# Altium footprint library EHK2V.PcbLib: 23 footprints (part 2 of 2)
Each footprint in its own frame and in the unit in brackets; x right, y up, seen from the top. Pads: shape width x height; smd on the part's side, far side on the other; paste and mask are expansions set on the pad; w line width, h text height; cw(c..) or ccw(c..) is an arc to the next point about the centre after c.
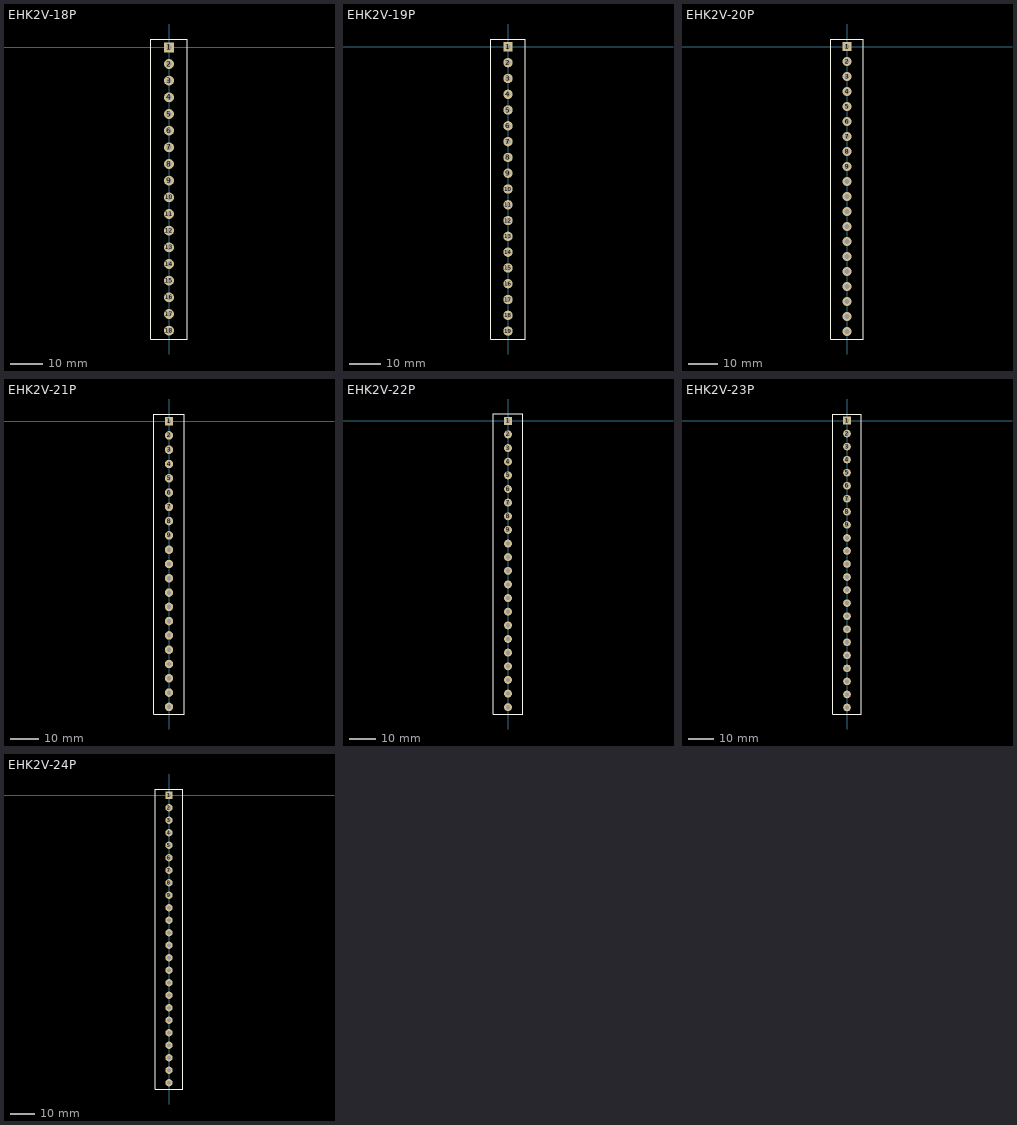
[diagram p1: the footprints below, top view; thin cyan lines are the x and y axes]

## EHK2V-18P [mm] "PCB Terminal Blocks"
pads (18):
  rect 3x3 hole 1.6: 1(0,0)
  round 3 hole 1.6: 2(0,-5.08) 3(0,-10.16) 4(0,-15.24) 5(0,-20.32) 6(0,-25.4) 7(0,-30.48) 8(0,-35.56) 12(0,-55.88) 14(0,-66.04) 16(0,-76.2) 18(0,-86.36)
  round 3 hole 1.6 paste+0: 9(0,-40.64) 10(0,-45.72) 11(0,-50.8) 13(0,-60.96) 15(0,-71.12) 17(0,-81.28)
Top Overlay:
  lines w0.2: -5.5,-88.9 5.5,-88.9 5.5,2.54 -5.5,2.54 -5.5,-88.9
3D body: height 18, standoff 0, extent -5.6,-88.9 5.6,2.54

## EHK2V-19P [mm] "PCB Terminal Blocks"
pads (19):
  rect 3x3 hole 1.6: 1(0,0)
  round 3 hole 1.6: 2(0,-5.08) 3(0,-10.16) 4(0,-15.24) 5(0,-20.32) 6(0,-25.4) 7(0,-30.48) 8(0,-35.56) 12(0,-55.88) 14(0,-66.04) 16(0,-76.2) 18(0,-86.36)
  round 3 hole 1.6 paste+0: 9(0,-40.64) 10(0,-45.72) 11(0,-50.8) 13(0,-60.96) 15(0,-71.12) 17(0,-81.28) 19(0,-91.44)
Top Overlay:
  lines w0.2: -5.5,-93.98 5.5,-93.98 5.5,2.54 -5.5,2.54 -5.5,-93.98
3D body: height 18, standoff 0, extent -5.6,-93.98 5.6,2.54

## EHK2V-20P [mm] "PCB Terminal Blocks"
pads (20):
  rect 3x3 hole 1.6: 1(0,0)
  round 3 hole 1.6: 2(0,-5.08) 3(0,-10.16) 4(0,-15.24) 5(0,-20.32) 6(0,-25.4) 7(0,-30.48) 8(0,-35.56) 12(0,-55.88) 14(0,-66.04) 16(0,-76.2) 18(0,-86.36)
  round 3 hole 1.6 paste+0: 9(0,-40.64) 10(0,-45.72) 11(0,-50.8) 13(0,-60.96) 15(0,-71.12) 17(0,-81.28) 19(0,-91.44) 20(0,-96.52)
Top Overlay:
  lines w0.2: -5.5,-99.06 5.5,-99.06 5.5,2.54 -5.5,2.54 -5.5,-99.06
3D body: height 18, standoff 0, extent -5.6,-99.06 5.6,2.54

## EHK2V-21P [mm] "PCB Terminal Blocks"
pads (21):
  rect 3x3 hole 1.6: 1(0,0)
  round 3 hole 1.6: 2(0,-5.08) 3(0,-10.16) 4(0,-15.24) 5(0,-20.32) 6(0,-25.4) 7(0,-30.48) 8(0,-35.56) 12(0,-55.88) 14(0,-66.04) 16(0,-76.2) 18(0,-86.36)
  round 3 hole 1.6 paste+0: 9(0,-40.64) 10(0,-45.72) 11(0,-50.8) 13(0,-60.96) 15(0,-71.12) 17(0,-81.28) 19(0,-91.44) 20(0,-96.52) 21(0,-101.6)
Top Overlay:
  lines w0.2: -5.5,-104.14 5.5,-104.14 5.5,2.54 -5.5,2.54 -5.5,-104.14
3D body: height 18, standoff 0, extent -5.6,-104.14 5.6,2.54

## EHK2V-22P [mm] "PCB Terminal Blocks"
pads (22):
  rect 3x3 hole 1.6: 1(0,0)
  round 3 hole 1.6: 2(0,-5.08) 3(0,-10.16) 4(0,-15.24) 5(0,-20.32) 6(0,-25.4) 7(0,-30.48) 8(0,-35.56) 12(0,-55.88) 14(0,-66.04) 16(0,-76.2) 18(0,-86.36)
  round 3 hole 1.6 paste+0: 9(0,-40.64) 10(0,-45.72) 11(0,-50.8) 13(0,-60.96) 15(0,-71.12) 17(0,-81.28) 19(0,-91.44) 20(0,-96.52) 21(0,-101.6) 22(0,-106.68)
Top Overlay:
  lines w0.2: -5.5,-109.22 5.5,-109.22 5.5,2.54 -5.5,2.54 -5.5,-109.22
3D body: height 18, standoff 0, extent -5.6,-109.22 5.6,2.54

## EHK2V-23P [mm] "PCB Terminal Blocks"
pads (23):
  rect 3x3 hole 1.6: 1(0,0)
  round 3 hole 1.6: 2(0,-5.08) 3(0,-10.16) 4(0,-15.24) 5(0,-20.32) 6(0,-25.4) 7(0,-30.48) 8(0,-35.56) 12(0,-55.88) 14(0,-66.04) 16(0,-76.2) 18(0,-86.36)
  round 3 hole 1.6 paste+0: 9(0,-40.64) 10(0,-45.72) 11(0,-50.8) 13(0,-60.96) 15(0,-71.12) 17(0,-81.28) 19(0,-91.44) 20(0,-96.52) 21(0,-101.6) 22(0,-106.68) 23(0,-111.76)
Top Overlay:
  lines w0.2: -5.5,-114.3 5.5,-114.3 5.5,2.54 -5.5,2.54 -5.5,-114.3
3D body: height 18, standoff 0, extent -5.6,-114.3 5.6,2.54

## EHK2V-24P [mm] "PCB Terminal Blocks"
pads (24):
  rect 3x3 hole 1.6: 1(0,0)
  round 3 hole 1.6: 2(0,-5.08) 3(0,-10.16) 4(0,-15.24) 5(0,-20.32) 6(0,-25.4) 7(0,-30.48) 8(0,-35.56) 12(0,-55.88) 14(0,-66.04) 16(0,-76.2) 18(0,-86.36)
  round 3 hole 1.6 paste+0: 9(0,-40.64) 10(0,-45.72) 11(0,-50.8) 13(0,-60.96) 15(0,-71.12) 17(0,-81.28) 19(0,-91.44) 20(0,-96.52) 21(0,-101.6) 22(0,-106.68) 23(0,-111.76) 24(0,-116.84)
Top Overlay:
  lines w0.2: -5.5,-119.38 5.5,-119.38 5.5,2.54 -5.5,2.54 -5.5,-119.38
3D body: height 18, standoff 0, extent -5.6,-119.38 5.6,2.54